# Altium schematic symbol library SamacSys.SchLib: 3 symbols
Pins are listed as number, name and electrical type; pins without a type are passive.

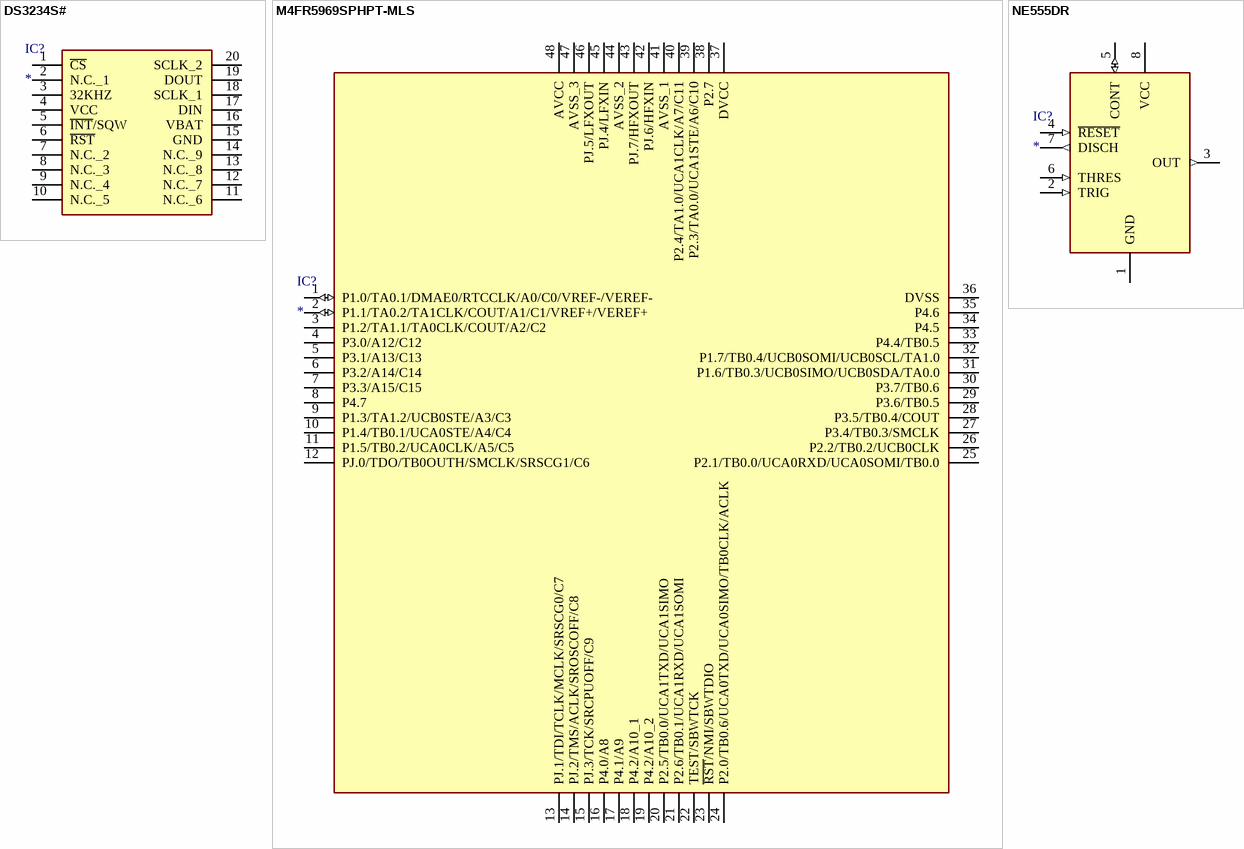
[diagram p0: symbols DS3234S# to NE555DR]

## DS3234S#
designator IC?
Integrated Circuit; Manufacturer_Name: Maxim Integrated; Manufacturer_Part_Number: DS3234S#; Datasheet Link: https://componentsearchengine.com//DS3234S#.pdf; Height: 2.65mm; Mouser2 Part Number: 700-DS3234S#; Mouser2 Price/Stock: https://www.mouser.com/Search/Refine.aspx?Keyword=700-DS3234S%23
footprint SOIC127P1032X265-20N
pins: 1 ~{CS}, 2 N.C._1, 3 32KHZ, 4 VCC, 5 ~{INT}/SQW, 6 ~{RST}, 7 N.C._2, 8 N.C._3, 9 N.C._4, 10 N.C._5, 11 N.C._6, 12 N.C._7, 13 N.C._8, 14 N.C._9, 15 GND, 16 VBAT, 17 DIN, 18 SCLK_1, 19 DOUT, 20 SCLK_2

## M4FR5969SPHPT-MLS
designator IC?
Integrated Circuit; Manufacturer_Name: Texas Instruments; Manufacturer_Part_Number: M4FR5969SPHPT-MLS; Datasheet Link: https://www.ti.com/lit/ds/symlink/msp430fr5969-sp.pdf?HQS=TI-null-null-mousermode-df-pf-null-wwe&DCM=yes&ref_url=https%253A%252F%252Fwww.mouser.de%252F&distId=26; Height: 1.6mm; Arrow Part Number: M4FR5969SPHPT-MLS
footprint QFP50P900X900X160-48N
pins: 1 P1.0/TA0.1/DMAE0/RTCCLK/A0/C0/VREF-/VEREF- (io), 2 P1.1/TA0.2/TA1CLK/COUT/A1/C1/VREF+/VEREF+ (io), 3 P1.2/TA1.1/TA0CLK/COUT/A2/C2, 4 P3.0/A12/C12, 5 P3.1/A13/C13, 6 P3.2/A14/C14, 7 P3.3/A15/C15, 8 P4.7, 9 P1.3/TA1.2/UCB0STE/A3/C3, 10 P1.4/TB0.1/UCA0STE/A4/C4, 11 P1.5/TB0.2/UCA0CLK/A5/C5, 12 PJ.0/TDO/TB0OUTH/SMCLK/SRSCG1/C6, 13 PJ.1/TDI/TCLK/MCLK/SRSCG0/C7, 14 PJ.2/TMS/ACLK/SROSCOFF/C8, 15 PJ.3/TCK/SRCPUOFF/C9, 16 P4.0/A8, 17 P4.1/A9, 18 P4.2/A10_1, 19 P4.2/A10_2, 20 P2.5/TB0.0/UCA1TXD/UCA1SIMO, 21 P2.6/TB0.1/UCA1RXD/UCA1SOMI, 22 TEST/SBWTCK, 23 ~{RST}/NMI/SBWTDIO, 24 P2.0/TB0.6/UCA0TXD/UCA0SIMO/TB0CLK/ACLK, 25 P2.1/TB0.0/UCA0RXD/UCA0SOMI/TB0.0, 26 P2.2/TB0.2/UCB0CLK, 27 P3.4/TB0.3/SMCLK, 28 P3.5/TB0.4/COUT, 29 P3.6/TB0.5, 30 P3.7/TB0.6, 31 P1.6/TB0.3/UCB0SIMO/UCB0SDA/TA0.0, 32 P1.7/TB0.4/UCB0SOMI/UCB0SCL/TA1.0, 33 P4.4/TB0.5, 34 P4.5, 35 P4.6, 36 DVSS, 37 DVCC, 38 P2.7, 39 P2.3/TA0.0/UCA1STE/A6/C10, 40 P2.4/TA1.0/UCA1CLK/A7/C11, 41 AVSS_1, 42 PJ.6/HFXIN, 43 PJ.7/HFXOUT, 44 AVSS_2, 45 PJ.4/LFXIN, 46 PJ.5/LFXOUT, 47 AVSS_3, 48 AVCC

## NE555DR
designator IC?
Integrated Circuit; Manufacturer_Name: Texas Instruments; Manufacturer_Part_Number: NE555DR; Datasheet Link: http://www.ti.com/lit/ds/symlink/ne555.pdf; Height: 1.75mm; Mouser Part Number: 595-NE555DR; Mouser Price/Stock: https://www.mouser.com/Search/Refine.aspx?Keyword=595-NE555DR; RS Part Number: 1218414; RS Price/Stock: http://uk.rs-online.com/web/p/products/1218414
footprint SOIC127P600X175-8N
pins: 1 GND (power), 2 TRIG (in), 3 OUT (out), 4 ~{RESET} (in), 5 CONT (io), 6 THRES (in), 7 DISCH (out), 8 VCC (power)